# Altium footprint library STMM-108-XX-XX-D.PcbLib: 1 footprints
Each footprint in its own frame and in the unit in brackets; x right, y up, seen from the top. Pads: shape width x height; smd on the part's side, far side on the other; paste and mask are expansions set on the pad; w line width, h text height; cw(c..) or ccw(c..) is an arc to the next point about the centre after c.
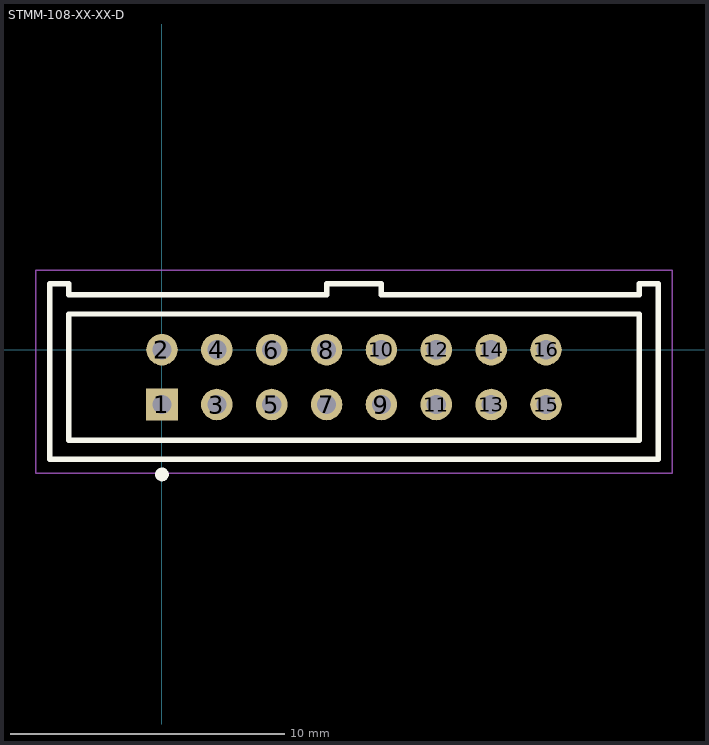
[diagram p0: the footprint, top view; thin cyan lines are the x and y axes]

## STMM-108-XX-XX-D [mm] "2.00mm pitch, 16 pin, header; shrouded"
height 4.8
pads (16):
  rect 1.15x1.15 / inner round 1.15 / far side rect 1.15x1.15 hole 0.7 mask+0: 1(0,-2)
  round 1.15 hole 0.7 mask+0: 2(0,0) 3(2,-2) 4(2,0) 5(4,-2) 6(4,0) 7(6,-2) 8(6,0) 9(8,-2) 10(8,0) 11(10,-2) 12(10,0) 13(12,-2) 14(12,0) 15(14,-2) 16(14,0)
Top Overlay:
  circle w0.25: c0,-4.55 r0.125
  lines w0.2: -4.1,-4 18.1,-4 18.1,2.4 17.4,2.4 17.4,2 8,2 8,2.4 6,2.4 6,2 -3.4,2 -3.4,2.4 -4.1,2.4 -4.1,-4 ; -3.4,-3.3 -3.4,1.3 17.4,1.3 17.4,-3.3 -3.4,-3.3
Mechanical 12:
  lines w0.001: -4.1,-4 18.1,-4 18.1,2.4 17.4,2.4 17.4,2 8,2 8,2.4 6,2.4 6,2 -3.4,2 -3.4,2.4 -4.1,2.4 -4.1,-4
Mechanical 13:
  lines w0.1: -4.1,-4 18.1,-4 18.1,2.4 17.4,2.4 17.4,2 8,2 8,2.4 6,2.4 6,2 -3.4,2 -3.4,2.4 -4.1,2.4 -4.1,-4 ; -3.4,-3.3 -3.4,1.3 17.4,1.3 17.4,-3.3 -3.4,-3.3
  text ".Designator" at 0,-2.127 h1.52
Mechanical 15:
  lines w0.05: -4.6,-4.5 -4.6,2.9 18.6,2.9 18.6,-4.5 -4.6,-4.5